# Altium schematic symbol library lib_ic_IC.SchLib: 14 symbols
Pins are listed as number, name and electrical type; pins without a type are passive.

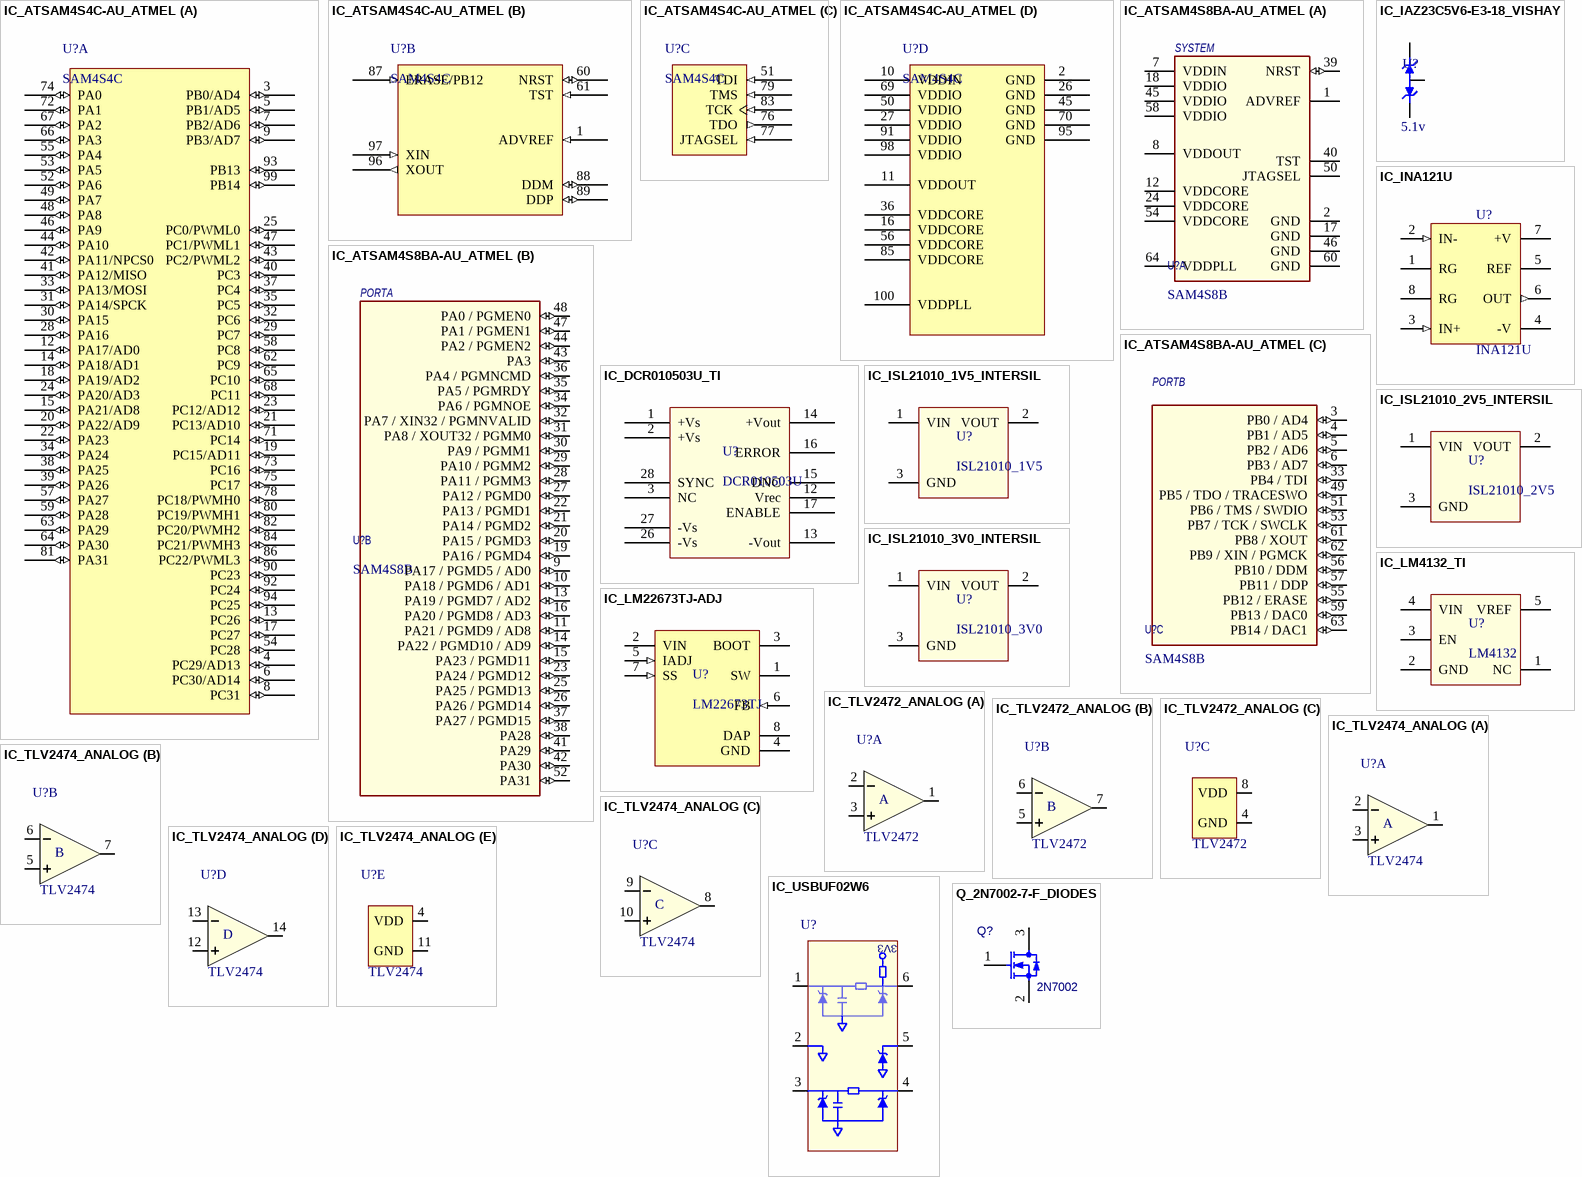
[diagram p0: symbols IC_ATSAM4S4C-AU_ATMEL to Q_2N7002-7-F_DIODES]

## IC_ATSAM4S4C-AU_ATMEL
designator U?, comment SAM4S4C
IC MCU 32BIT 256KB FLASH 100LQFP; Manufacturer: ATMEL; Manufacturer Part Number: ATSAM4S4CA-AU; Digikey Part Number: ATSAM4S4CA-AU-ND; Value: SAM4S4C; Mouser Part Number: 556-ATSAM4S4CA-AU
footprint TSQFP50P1600X1600-100N (Thin QFP, 100-Leads, Body 14x14mm, Pitch 0.5mm, IPC Medium Density)
part A pins: 3 PB0/AD4 (io), 4 PC29/AD13 (io), 5 PB1/AD5 (io), 6 PC30/AD14 (io), 7 PB2/AD6 (io), 8 PC31 (io), 9 PB3/AD7 (io), 12 PA17/AD0 (io), 13 PC26 (io), 14 PA18/AD1 (io), 15 PA21/AD8 (io), 17 PC27 (io), 18 PA19/AD2 (io), 19 PC15/AD11 (io), 20 PA22/AD9 (io), 21 PC13/AD10 (io), 22 PA23 (io), 23 PC12/AD12 (io), 24 PA20/AD3 (io), 25 PC0/PWML0 (io), 28 PA16 (io), 29 PC7 (io), 30 PA15 (io), 31 PA14/SPCK (io), 32 PC6 (io), 33 PA13/MOSI (io), 34 PA24 (io), 35 PC5 (io), 37 PC4 (io), 38 PA25 (io), 39 PA26 (io), 40 PC3 (io), 41 PA12/MISO (io), 42 PA11/NPCS0 (io), 43 PC2/PWML2 (io), 44 PA10 (io), 46 PA9 (io), 47 PC1/PWML1 (io), 48 PA8 (io), 49 PA7 (io), 52 PA6 (io), 53 PA5 (io), 54 PC28 (io), 55 PA4 (io), 57 PA27 (io), 58 PC8 (io), 59 PA28 (io), 62 PC9 (io), 63 PA29 (io), 64 PA30 (io), 65 PC10 (io), 66 PA3 (io), 67 PA2 (io), 68 PC11 (io), 71 PC14 (io), 72 PA1 (io), 73 PC16 (io), 74 PA0 (io), 75 PC17 (io), 78 PC18/PWMH0 (io), 80 PC19/PWMH1 (io), 81 PA31 (io), 82 PC20/PWMH2 (io), 84 PC21/PWMH3 (io), 86 PC22/PWML3 (io), 90 PC23 (io), 92 PC24 (io), 93 PB13 (io), 94 PC25 (io), 99 PB14 (io)
part B pins: 1 ADVREF (in), 60 NRST (io), 61 TST (in), 87 ERASE/PB12 (in), 88 DDM (io), 89 DDP (io), 96 XOUT (out), 97 XIN (in)
part C pins: 51 TDI (in), 76 TDO (out), 77 JTAGSEL (in), 79 TMS (in), 83 TCK (in)
part D pins: 2 GND (power), 10 VDDIN (power), 11 VDDOUT (power), 16 VDDCORE (power), 26 GND (power), 27 VDDIO (power), 36 VDDCORE (power), 45 GND (power), 50 VDDIO (power), 56 VDDCORE (power), 69 VDDIO (power), 70 GND (power), 85 VDDCORE (power), 91 VDDIO (power), 95 GND (power), 98 VDDIO (power), 100 VDDPLL (power)

## IC_ATSAM4S8BA-AU_ATMEL
designator U?, comment SAM4S8B
IC MCU 32BIT 512KB FLASH 64LQFP; Manufacturer: Atmel; Manufacturer Part Number: ATSAM4S8BA-AU; Value: ATSAM4S; BOM Populate: *; Digikey Part Number: ATSAM4S8BA-AU-ND; Power Rating: *; Supplier: *; Supplier Part No: *; Tolerance: *; Voltage Rating: *; Mouser Part Number: 556-ATSAM4S8BA-AU
footprint TQFP50P1000X1000X160-64N (TQFP, 64-Leads, Body 10,00x10,00mm, Pitch 0,50mm, IPC Medium Density)
part A pins: 1 ADVREF (power) "External RTC Battery", 2 GND (power) "Ground", 7 VDDIN (power) "Supply", 8 VDDOUT (power) "Supply", 12 VDDCORE (power) "Supply", 17 GND (power) "Ground", 18 VDDIO (power) "Supply", 24 VDDCORE (power) "Supply", 39 NRST (io) "Reset", 40 TST "Oscillator Input", 45 VDDIO (power) "Supply", 46 GND (power) "Ground", 50 JTAGSEL "Oscillator Output", 54 VDDCORE (power) "Supply", 58 VDDIO (power) "Supply", 60 GND (power) "Ground", 64 VDDPLL (power) "Supply"
part B pins: 9 PA17 / PGMD5 / AD0 (io), 10 PA18 / PGMD6 / AD1 (io), 11 PA21 / PGMD9 / AD8 (io), 13 PA19 / PGMD7 / AD2 (io) "Supply", 14 PA22 / PGMD10 / AD9 (io) "Supply", 15 PA23 / PGMD11 (io) "Supply", 16 PA20 / PGMD8 / AD3 (io) "Supply", 19 PA16 / PGMD4 (io) "Supply", 20 PA15 / PGMD3 (io) "Supply", 21 PA14 / PGMD2 (io), 22 PA13 / PGMD1 (io), 23 PA24 / PGMD12 (io), 25 PA25 / PGMD13 (io), 26 PA26 / PGMD14 (io) "Supply", 27 PA12 / PGMD0 (io), 28 PA11 / PGMM3 (io), 29 PA10 / PGMM2 (io), 30 PA9 / PGMM1 (io), 31 PA8 / XOUT32 / PGMM0 (io), 32 PA7 / XIN32 / PGMNVALID (io), 34 PA6 / PGMNOE (io), 35 PA5 / PGMRDY (io), 36 PA4 / PGMNCMD (io), 37 PA27 / PGMD15 (io) "Supply", 38 PA28 (io), 41 PA29 (io), 42 PA30 (io), 43 PA3 (io), 44 PA2 / PGMEN2 (io), 47 PA1 / PGMEN1 (io), 48 PA0 / PGMEN0 (io), 52 PA31 (io)
part C pins: 3 PB0 / AD4 (io), 4 PB1 / AD5 (io), 5 PB2 / AD6 (io), 6 PB3 / AD7 (io), 33 PB4 / TDI (io), 49 PB5 / TDO / TRACESWO (io), 51 PB6 / TMS / SWDIO (io), 53 PB7 / TCK / SWCLK (io), 55 PB12 / ERASE (io), 56 PB10 / DDM (io), 57 PB11 / DDP (io), 59 PB13 / DAC0 (io), 61 PB8 / XOUT (io), 62 PB9 / XIN / PGMCK (io), 63 PB14 / DAC1 (io)
part A text: SYSTEM
part B text: PORTA
part C text: PORTB

## IC_DCR010503U_TI
designator U?, comment DCR010503U
IC REG ISOLATED 3.3V 0.3A 12SOP; Digikey Part Number: 296-9450-5-ND; Mouser Part Number: 595-DCR010503U; Manufacturer Part Number: DCR010503U
footprint SOP28 (28-Pin Plastic Battery Snaphat Small Outline Package 1.27 mm Pitch)
pins: 1 +Vs, 2 +Vs, 3 NC, 12 Vrec, 13 -Vout, 14 +Vout, 15 DNC, 16 ERROR, 17 ENABLE, 26 -Vs, 27 -Vs, 28 SYNC

## IC_IAZ23C5V6-E3-18_VISHAY
designator U?  Voltage: 5.1v  (hidden comment: *)
DIODE ZENER ARRAY 5.6V SOT23; Manufacturer Part Number: AZ23C5V6-E3-18; Digikey Part Number: AZ23C5V6-E3-18CT-ND; Mouser Part Number: 78-AZ23C5V6-E3-18
footprint SOT23-3M (SOT23, 3-Leads, Body 2.9x1.3mm, Pitch 0.95mm, Lead Span 2.5mm, IPC Low Density)
pins: 1, 2, 3

## IC_INA121U
designator U?, comment INA121U
IC OPAMP INSTR 600KHZ 8SOIC; Manufacturer Part Number: INA121UA; Digikey Part Number: INA121UA-ND; Mouser Part Number: 595-INA121UA
footprint SOIC127P600-8BN (SOIC, 8-Leads, Body 4.9x3.9mm, Pitch 1.27mm, IPC Medium Density)
pins: 1 RG, 2 IN- (in), 3 IN+ (in), 4 -V (power), 5 REF, 6 OUT (out), 7 +V (power), 8 RG

## IC_ISL21010_1V5_INTERSIL
designator U?, comment ISL21010_1V5
IC VREF SERIES 1.5V SOT23-3; Manufacturer Part Number: ISL21010CFH315Z-TK; Digikey Part Number: ISL21010CFH315Z-TKCT-ND; Mouser Part Number: 968-ISL21010CFH315ZT
footprint SOT23-3M (SOT23, 3-Leads, Body 2.9x1.3mm, Pitch 0.95mm, Lead Span 2.5mm, IPC Low Density)
pins: 1 VIN, 2 VOUT, 3 GND

## IC_ISL21010_2V5_INTERSIL
designator U?, comment ISL21010_2V5
IC VREF SERIES 2.5V SOT23-3; Manufacturer Part Number: ISL21010CFH325Z-TK; Digikey Part Number: ISL21010CFH325Z-TKCT-ND; Mouser Part Number: 968-ISL21010CFH325ZT
footprint SOT23-3M (SOT23, 3-Leads, Body 2.9x1.3mm, Pitch 0.95mm, Lead Span 2.5mm, IPC Low Density)
pins: 1 VIN, 2 VOUT, 3 GND

## IC_ISL21010_3V0_INTERSIL
designator U?, comment ISL21010_3V0
IC VREF SERIES 3V SOT23-3; Manufacturer Part Number: ISL21010CFH330Z-TK; Digikey Part Number: ISL21010CFH330Z-TKCT-ND; Mouser Part Number: 968-ISL21010CFH330ZT
footprint SOT23-3M (SOT23, 3-Leads, Body 2.9x1.3mm, Pitch 0.95mm, Lead Span 2.5mm, IPC Low Density)
pins: 1 VIN, 2 VOUT, 3 GND

## IC_LM4132_TI
designator U?, comment LM4132
IC VREF SERIES 2.5V SOT23-5; Manufacturer Part Number: LM4132CMF-2.5/NOPB; Digikey Part Number: LM4132CMF-2.5/NOPBCT-ND; Mouser Part Number: 926-LM4132CMF25NOPB
footprint SOT23-5AM (SOT23, 5-Leads, Body 2.9x1.7mm, Pitch 0.95mm, Lead Span 2.8mm, IPC Low Density)
pins: 1 NC, 2 GND, 3 EN, 4 VIN, 5 VREF

## IC_LM22673TJ-ADJ
designator U?, comment LM22673TJ
3A SIMPLE SWITCHER® Step-Down Voltage Regulator with Adjustable Soft-Start and Current Limit, 7-pin TO-263 Thin; Manufacturer Part Number: LM22673TJ-ADJ/NOPB; Digikey Part Number: LM22673TJ-ADJ/NOPBCT-ND; Mouser Part Number: 926-LM22673TJADJNOPB
footprint TJ7A_N (D2-PAK, 8-Leads, Body 9.9x10.2mm, Pitch 1.27mm, Lead Span 14mm, IPC Medium Density)
pins: 1 SW (power), 2 VIN (power), 3 BOOT, 4 GND (power), 5 IADJ (in), 6 FB (in), 7 SS (in), 8 DAP (power)

## IC_TLV2472_ANALOG
designator U?  value TLV2472  (hidden comment: *)
IC OPAMP GP 2.8MHZ RRO 8SOIC; Manufacturer: Texas Instrument; Manufacturer Part Number: TLV2472CDR; Digikey Part Number: 296-2440-1-ND; Mouser Part Number: 595-TLV2472CDR
footprint SOIC127P600-8BN (SOIC, 8-Leads, Body 4.9x3.9mm, Pitch 1.27mm, IPC Medium Density)
part A pins: 1 OUTA, 2 INA-, 3 INA+
part B pins: 5 INB+, 6 INB-, 7 OUTB
part C pins: 4 GND, 8 VDD
part A text: A
part B text: B

## IC_TLV2474_ANALOG
designator U?  value TLV2474  (hidden comment: *)
IC OPAMP GP 2.8MHZ RRO 14SOIC; Manufacturer: Texas Instrument; Manufacturer Part Number: TLV2474CDR; BOM_Populate: *; Digikey Part Number: 296-2442-1-ND; Mouser Part Number: 595-TLV2474CDR
footprint SOIC127P600-14AN (SOIC, 14-Leads, Body 8.6x3.9mm, Pitch 1.27mm, IPC Medium Density)
part A pins: 1 OUTA, 2 INA-, 3 INA+
part B pins: 5 INB+, 6 INB-, 7 OUTB
part C pins: 8 OUTC, 9 INC-, 10 INC+
part D pins: 12 IND+, 13 IND-, 14 OUTD
part E pins: 4 VDD, 11 GND
part A text: A
part B text: B
part C text: C
part D text: D

## IC_USBUF02W6
designator U?  (value not drawn)
USB EMI Filter; Digikey Part Number: 497-3743-1-ND
footprint SOT65P210X110-6N (SOT23, 6-Leads, Body 2,2x2,4mm (max), Pitch 0,65mm, IPC Medium Density)
pins: 1 D1, 2 GND, 3 D2, 4 D4, 5 3V3, 6 D3

## Q_2N7002-7-F_DIODES
designator Q?, comment 2N7002
MOSFET N-CH 60V 115MA SOT23-3; Manufacturer Part Number: 2N7002-FDICT-ND; Mouser Part Number: 621-2N7002-F; Voltage Rating: 60V; Digikey Part Number: 2N7002-7-F; Value: 2N7002
footprint SOT23-3M (SOT23, 3-Leads, Body 2.9x1.3mm, Pitch 0.95mm, Lead Span 2.5mm, IPC Low Density)
pins: 1 G, 2 S, 3 D